# EAGLE library part THAT1646 (library TLV5618)
TLV 5618 12 BIT DAC Datasheet: http://www.mouser.com/ds/2/405/slas230h-117520.pdf
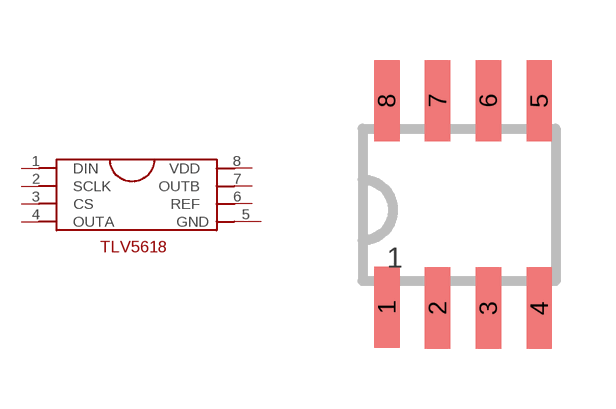
[diagram p0: symbol with the pads of TLV5618; footprint TLV5618]

Designator prefix -

## THAT1646SMD  [TLV5618]
1  DIN  in
2  SCLK  in
3  CS  in
4  OUTA  out
5  GND
6  REF  pwr
7  OUTB  out
8  VDD  pwr

## Footprint TLV5618 (pad centres in mm)
TLV5618 12 BIT DAC (SMD) Datasheet: http://www.mouser.com/ds/2/405/slas230h-117520.pdf
smd 0.635 x 2.032: 1 0.61,-0.652; 2 1.88,-0.676; 3 3.15,-0.676; 4 4.42,-0.676; 5 4.42,4.511; 6 3.15,4.511; 7 1.88,4.511; 8 0.61,4.511